# Altium footprint library 18039.PcbLib: 1 footprints
Each footprint in its own frame and in the unit in brackets; x right, y up, seen from the top. Pads: shape width x height; smd on the part's side, far side on the other; paste and mask are expansions set on the pad; w line width, h text height; cw(c..) or ccw(c..) is an arc to the next point about the centre after c.
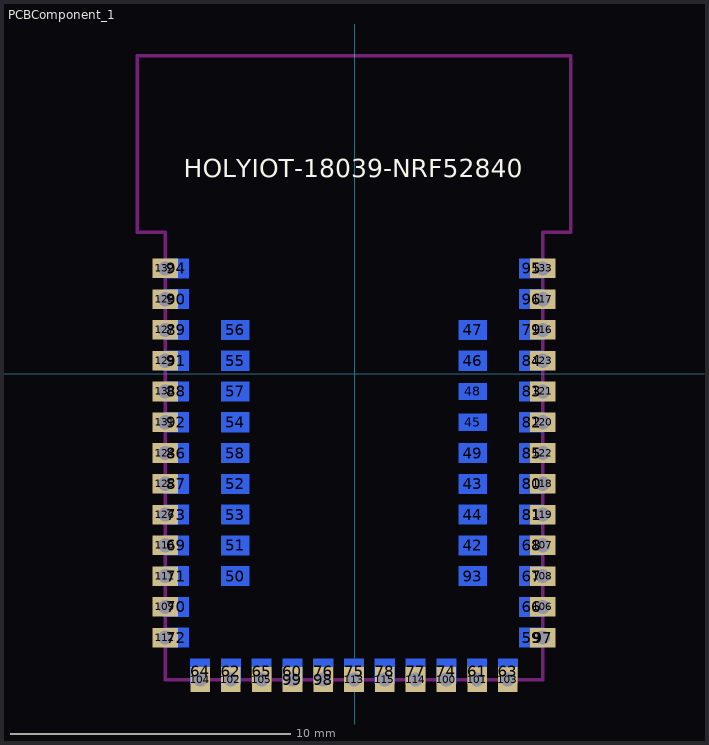
[diagram p0: the footprint, top view; thin cyan lines are the x and y axes]

## PCBComponent_1 [mm]
pads (92):
  rect 1x0.7 smd far side: 42(4.228,-6.137) 43(4.228,-3.937) 44(4.228,-5.037) 46(4.228,0.463) 47(4.228,1.563) 49(4.228,-2.837) 50(-4.272,-7.237) 51(-4.272,-6.137) 52(-4.272,-3.937) 53(-4.272,-5.037) 54(-4.272,-1.737) 55(-4.272,0.463) 56(-4.272,1.563) 57(-4.272,-0.637) 58(-4.272,-2.837) 93(4.228,-7.237)
  rect 1x0.6 smd far side: 45(4.228,-1.737) 48(4.228,-0.637)
  rect 0.9x0.7 smd far side: 59(6.328,-9.437) 66(6.328,-8.337) 67(6.328,-7.237) 68(6.328,-6.137) 69(-6.372,-6.137) 70(-6.372,-8.337) 71(-6.372,-7.237) 72(-6.372,-9.437) 73(-6.372,-5.037) 79(6.328,1.563) 80(6.328,-3.937) 81(6.328,-5.037) 82(6.328,-1.737) 83(6.328,-0.637) 84(6.328,0.463) 85(6.328,-2.837) 86(-6.372,-2.837) 87(-6.372,-3.937) 88(-6.372,-0.637) 89(-6.372,1.563) 90(-6.372,2.663) 91(-6.372,0.463) 92(-6.372,-1.737) 94(-6.372,3.763) 95(6.328,3.763) 96(6.328,2.663)
  rect 0.7x0.9 smd far side: 60(-2.222,-10.637) 61(4.378,-10.637) 62(-4.422,-10.637) 63(5.478,-10.637) 64(-5.522,-10.637) 65(-3.322,-10.637) 74(3.278,-10.637) 75(-0.022,-10.637) 76(-1.122,-10.637) 77(2.178,-10.637) 78(1.078,-10.637)
  rect 0.9x0.7 hole 0.508: 97(6.728,-9.437) 106(6.728,-8.337) 107(6.728,-6.137) 108(6.728,-7.237) 109(-6.772,-8.337) 110(-6.772,-6.137) 111(-6.772,-7.237) 112(-6.772,-9.437) 116(6.728,1.563) 117(6.728,2.663) 118(6.728,-3.937) 119(6.728,-5.037) 120(6.728,-1.737) 121(6.728,-0.637) 122(6.728,-2.837) 123(6.728,0.463) 124(-6.772,-2.837) 125(-6.772,-3.937) 126(-6.772,-5.037) 127(-6.772,1.563) 128(-6.772,2.663) 129(-6.772,0.463) 130(-6.772,-0.637) 131(-6.772,-1.737) 132(-6.772,3.763) 133(6.728,3.763)
  rect 0.7x0.9 hole 0.508: 98(-1.122,-10.937) 99(-2.222,-10.937) 100(3.278,-10.937) 101(4.378,-10.937) 102(-4.422,-10.937) 103(5.478,-10.937) 104(-5.522,-10.937) 105(-3.322,-10.937) 113(-0.022,-10.937) 114(2.178,-10.937) 115(1.078,-10.937)
Top Overlay:
  text "HOLYIOT-18039-NRF52840" at -6.112,7.013 h0.65
Bottom Overlay:
  circle w0.2: c-4.622,6.183 r0.5
  region: 0.358,5.753 0.278,5.753 0.278,4.723 0.358,4.723
  region: 0.278,4.803 -0.212,4.803 -0.212,4.723 0.278,4.723
  region: -0.73,4.307 -0.597,4.356 -1.192,5.991 -1.325,5.943
  region: -0.923,4.644 -0.801,4.599 -0.312,5.943 -0.434,5.987
  region: -0.352,4.473 -0.672,4.473 -0.672,4.293 -0.352,4.293
  region: -1.538,6.167 -1.686,6.316 -1.82,6.181 -1.672,6.033
  region: -1.632,5.883 -1.722,5.883 -1.722,4.853 -1.632,4.853
  region: 1.098,5.753 0.998,5.753 0.998,4.753 1.098,4.753
  region: 1.778,5.823 1.098,5.823 1.098,5.673 1.778,5.673
  region: -2.102,5.743 -2.302,5.743 -2.302,5.013 -2.102,5.013
  region: -2.876,4.807 -2.737,4.887 -3.012,5.363 -3.151,5.283
  region: -2.932,5.623 -3.102,5.623 -3.102,5.243 -2.932,5.243
  region: -2.822,5.842 -2.963,5.894 -3.072,5.593 -2.931,5.542
  region: -2.272,5.943 -2.902,5.943 -2.902,5.783 -2.272,5.783
  region: -2.182,5.843 -2.362,5.843 -2.362,5.683 -2.182,5.683
  region: -2.252,4.953 -2.922,4.953 -2.922,4.843 -2.252,4.843
  region: -2.192,5.053 -2.402,5.053 -2.402,4.943 -2.192,4.943
  region: 1.868,5.793 1.768,5.793 1.768,4.753 1.868,4.753
  region: 1.778,4.833 1.088,4.833 1.088,4.703 1.778,4.703
  region: 2.248,5.893 2.098,5.893 2.098,4.693 2.248,4.693
  region: 2.338,5.823 2.218,5.823 2.218,5.583 2.338,5.583
  region: 2.468,5.993 2.188,5.993 2.188,5.813 2.468,5.813
  region: 2.966,5.554 3.054,5.695 2.496,6.044 2.408,5.903
  region: 3.128,6.583 2.958,6.583 2.958,4.693 3.128,4.693
  region: -3.536,6.1 -3.692,6.1 -3.692,4.773 -3.536,4.773
  region: -3.362,5.813 -3.932,5.813 -3.932,5.713 -3.362,5.713
  region: -3.662,4.893 -3.942,4.893 -3.942,4.743 -3.662,4.743
  lines w0.1: -2.133,5.063 ccw(c-2.929,5.394) -2.132,5.723 ; -2.129,5.056 cw(c-2.499,5.209) -2.376,4.828 cw(c-2.596,5.511) -2.815,4.828 cw(c-2.693,5.209) -3.062,5.056 cw(c-2.266,5.386) -3.063,5.716 cw(c-2.693,5.563) -2.816,5.944 cw(c-2.596,5.261) -2.375,5.944 cw(c-2.498,5.563) -2.128,5.716 ; -1.678,6.372 -1.493,6.187 -1.678,6.002 -1.864,6.187 -1.678,6.372 ; -1.367,5.991 -1.16,5.991 -0.828,4.999 -0.804,4.999 -0.474,5.985 -0.252,5.985 -0.718,4.731 -0.671,4.593 ccw(c-0.463,4.664) -0.44,4.446 ccw(c-0.498,4.991) -0.34,4.466 -0.346,4.272 cw(c-0.479,4.843) -0.544,4.26 cw(c-0.515,4.519) -0.71,4.347 cw(c-0.165,4.828) -0.847,4.577 ; -1.352,6.003 -0.832,4.589 ; 2.626,5.995 ccw(c2.446,5.497) 2.35,6.018 ccw(c2.412,5.683) 2.073,5.711 ccw(c4.8,5.491) 2.064,5.491 2.064,4.651 2.292,4.651 2.292,5.491 cw(c3.127,5.491) 2.316,5.688 cw(c2.491,5.645) 2.493,5.825 cw(c2.488,5.43) 2.701,5.763 cw(c2.204,5.063) 2.913,5.548 2.913,4.651 3.161,4.651 3.161,6.62 2.913,6.62 2.913,5.764 ccw(c2.261,5.247) 2.626,5.995 ; -3.965,4.738 ccw(c-3.816,5.148) -3.661,4.74 ccw(c-3.719,4.932) -3.527,4.873 ccw(c-3.812,4.961) -3.514,4.956 -3.502,5.683 -3.328,5.683 -3.328,5.832 -3.502,5.832 -3.502,6.087 -3.694,6.159 -3.694,5.832 -3.965,5.832 -3.965,5.683 -3.688,5.683 -3.688,5.074 cw(c-4.087,5.077) -3.709,4.951 cw(c-3.804,4.983) -3.761,4.892 cw(c-3.859,5.098) -3.869,4.87 cw(c-3.864,4.97) -3.929,4.894 cw(c-3.812,5.031) -3.965,4.936 -3.965,4.738 ; -2.878,5.643 ccw(c-2.156,5.387) -2.877,5.127 ccw(c-2.632,5.215) -2.758,4.988 ccw(c-2.596,5.281) -2.433,4.988 ccw(c-2.559,5.215) -2.315,5.127 ccw(c-3.035,5.387) -2.313,5.643 ccw(c-2.558,5.556) -2.428,5.781 ccw(c-2.596,5.491) -2.764,5.781 ccw(c-2.633,5.556) -2.878,5.643 ; -1.758,4.815 -1.758,5.925 -1.595,5.925 -1.595,4.815 -1.758,4.815 ; -0.258,4.682 0.403,4.682 0.403,5.8 0.237,5.8 0.237,4.828 -0.258,4.828 -0.258,4.682 ; 0.246,5.988 cw(c1.214,5.606) 1.276,6.644 1.269,6.571 ccw(c1.214,5.606) 0.317,5.965 0.246,5.988 ; 0.437,5.926 cw(c1.214,5.606) 1.256,6.445 1.248,6.371 ccw(c1.214,5.606) 0.508,5.903 0.437,5.926 ; 0.628,5.864 cw(c1.214,5.606) 1.236,6.246 1.228,6.172 ccw(c1.214,5.606) 0.699,5.841 0.628,5.864 ; 0.801,5.809 cw(c1.214,5.606) 1.217,6.066 1.21,5.992 ccw(c1.214,5.606) 0.872,5.785 0.801,5.808 ; 0.963,4.94 ccw(c1.243,4.94) 1.243,4.66 1.631,4.66 ccw(c1.631,4.94) 1.911,4.94 1.911,5.57 ccw(c1.631,5.57) 1.631,5.85 1.243,5.85 ccw(c1.243,5.57) 0.963,5.57 0.963,4.94 ; 1.075,5.013 ccw(c1.295,5.013) 1.295,4.793 1.569,4.793 ccw(c1.569,5.013) 1.789,5.013 1.789,5.498 ccw(c1.569,5.498) 1.569,5.718 1.295,5.718 ccw(c1.295,5.498) 1.075,5.498 1.075,5.013
  text "R" at -4.472,5.933 h0.5
Top Solder:
  rectangle: -5.91,5.096 -5.18,5.516
  rectangle: -3.48,5.096 0.39,5.526
  rectangle: -0.05,2.656 0.4,3.666
  rectangle: -0.05,2.656 5.875,3.096
  rectangle: -0.06,4.546 0.39,5.526
  rectangle: -5.91,-10.144 -5.475,5.516
  rectangle: -5.91,-10.144 4.12,-9.704
  rectangle: 5.345,-0.984 5.875,2.906
Keep-Out Layer:
  lines w0.127: -7.772,5.063 -7.772,11.363 7.728,11.363 7.728,5.063 6.728,5.063 6.728,-10.937 -6.772,-10.937 -6.772,5.063 -7.772,5.063